# EAGLE library part 0114_PH254-203DF118A00V (library Arduino_Shield_6_5_19_REV4)
3x2 M V h 8,5 mm p2,54
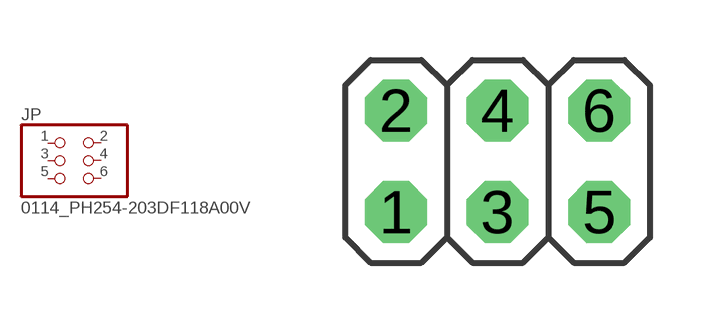
[diagram p1: symbol with the pads of 2X03; footprint 2X03]

Designator prefix JP

## 0114_PH254-203DF118A00V (MONTHLY_USAGE: _____; PART_NUMBER: PH254-203DF118A00V; PRICE: _____; SUPPLIER: _____; TYPE: Connettori; VALUE: ICSP)  [2X03]
1  1  pas
2  2  pas
3  3  pas
4  4  pas
5  5  pas
6  6  pas

## Footprint 2X03 (pad centres in mm)
PIN HEADER
drill 1.016 pad 1.55 octagon: 1 -2.54,-1.27; 2 -2.54,1.27; 3 0,-1.27; 4 0,1.27; 5 2.54,-1.27; 6 2.54,1.27